# Altium footprint library TERM_9.52MM_2x1_0.PcbLib: 1 footprints
Each footprint in its own frame and in the unit in brackets; x right, y up, seen from the top. Pads: shape width x height; smd on the part's side, far side on the other; paste and mask are expansions set on the pad; w line width, h text height; cw(c..) or ccw(c..) is an arc to the next point about the centre after c.
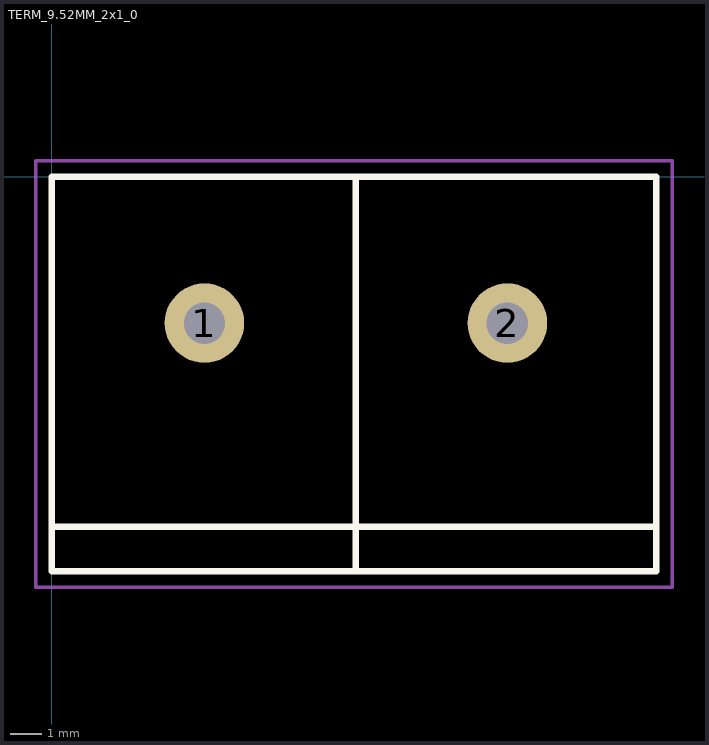
[diagram p0: the footprint, top view; thin cyan lines are the x and y axes]

## TERM_9.52MM_2x1_0 [mm] "Terminal Block, Phoenix Contact MKDS 9.52mm pitch"
pads (2):
  round 2.5 hole 1.3: 1(4.8,-4.6) 2(14.32,-4.6)
Top Overlay:
  lines w0.2: 0,-11 19,-11 ; 9.55,-12.4 9.55,0 ; 0,-12.4 0,0 19,0 19,-12.4 0,-12.4
Mechanical 15:
  lines w0.1: -0.5,-12.9 -0.5,0.5 19.5,0.5 19.5,-12.9 -0.5,-12.9